# Altium schematic symbol library jst-xa.SchLib: 8 symbols
Pins are listed as number, name and electrical type; pins without a type are passive.

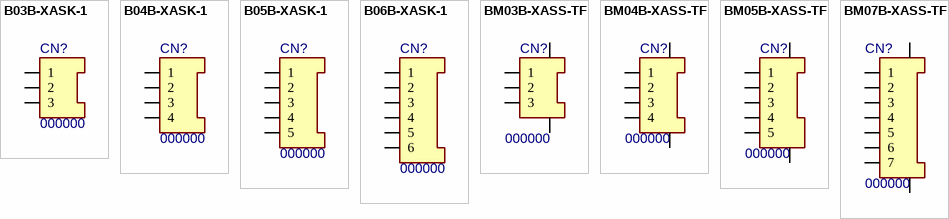
[diagram p0: symbols B03B-XASK-1 to BM07B-XASS-TF]

## B03B-XASK-1
designator CN?, comment 000000
3 pos, 2.5mm Wire to Board Connector; Value: B03B-XASK-1(LF)(SN); PN: 000000; Package: *; ExtraInfo: *
footprint B03B-XASK-1(LF)(SN) (3 pos, 2.5mm Wire to Board Connector)
pins: 1, 2, 3

## B04B-XASK-1
designator CN?, comment 000000
4 pos, 2.5mm Wire to Board Connector; Value: B04B-XASK-1(LF)(SN); PN: 000000; Package: *; ExtraInfo: *
footprint B04B-XASK-1(LF)(SN) (4 pos, 2.5mm Wire to Board Connector)
pins: 1, 2, 3, 4

## B05B-XASK-1
designator CN?, comment 000000
5 pos, 2.5mm Wire to Board Connector; Value: B05B-XASK-1(LF)(SN); PN: 000000; Package: *; ExtraInfo: *
footprint B05B-XASK-1(LF)(SN) (5 pos, 2.5mm Wire to Board Connector)
pins: 1, 2, 3, 4, 5

## B06B-XASK-1
designator CN?, comment 000000
6 pos, 2.5mm Wire to Board Connector; Value: B06B-XASK-1(LF)(SN); PN: 000000; Package: *; ExtraInfo: *
footprint B06B-XASK-1(LF)(SN) (6 pos, 2.5mm Wire to Board Connector)
pins: 1, 2, 3, 4, 5, 6

## BM03B-XASS-TF
designator CN?, comment 000000
3 pos, 2.5mm, SMD Wire to Board Connector; Value: BM03B-XASS-TF(LF)(SN); PN: 000000; Package: *; ExtraInfo: *
footprint BM03B-XASS-TF(LF)(SN) (3 pos, 2.5mm Wire to Board Connector)
pins: 1, 2, 3, 4, 5

## BM04B-XASS-TF
designator CN?, comment 000000
4pos, 2.5mm, SMD Wire to Board Connector; Value: BM04B-XASS-TF; MF PN: BM04B-XASS-TF(LF)(SN); MF: JST; PN: 000000; Package: *; ExtraInfo: *
footprint BM04B-XASS-TF(LF)(SN) (4 pos, 2.5mm Wire to Board Connector)
pins: 1, 2, 3, 4, 5, 6

## BM05B-XASS-TF
designator CN?, comment 000000
5pos, 2.5mm, SMD Wire to Board Connector; Value: BM05B-XASS-TF; MF PN: BM05B-XASS-TF(LF)(SN); MF: JST; PN: 000000; Package: *; ExtraInfo: *; Price: 0.88540; Digi-Key PN: 455-2024-1-ND
footprint BM05B-XASS-TF(LF)(SN) (5 pos, 2.5mm Wire to Board Connector)
pins: 1, 2, 3, 4, 5, 6, 7

## BM07B-XASS-TF
designator CN?, comment 000000
7 pos, 2.5mm, SMD Wire to Board Connector; MF PN: BM07B-XASS-TF(LF)(SN); Value: BM07B-XASS-TF; MF: JST; Package: *; ExtraInfo: *; PN: 000000
footprint BM07B-XASS-TF(LF)(SN) (3 pos, 2.5mm Wire to Board Connector)
pins: 1, 2, 3, 4, 5, 6, 7, 8, 9